# Altium footprint library SubG.PcbLib: 21 footprints (part 1 of 2)
Each footprint in its own frame and in the unit in brackets; x right, y up, seen from the top. Pads: shape width x height; smd on the part's side, far side on the other; paste and mask are expansions set on the pad; w line width, h text height; cw(c..) or ccw(c..) is an arc to the next point about the centre after c.
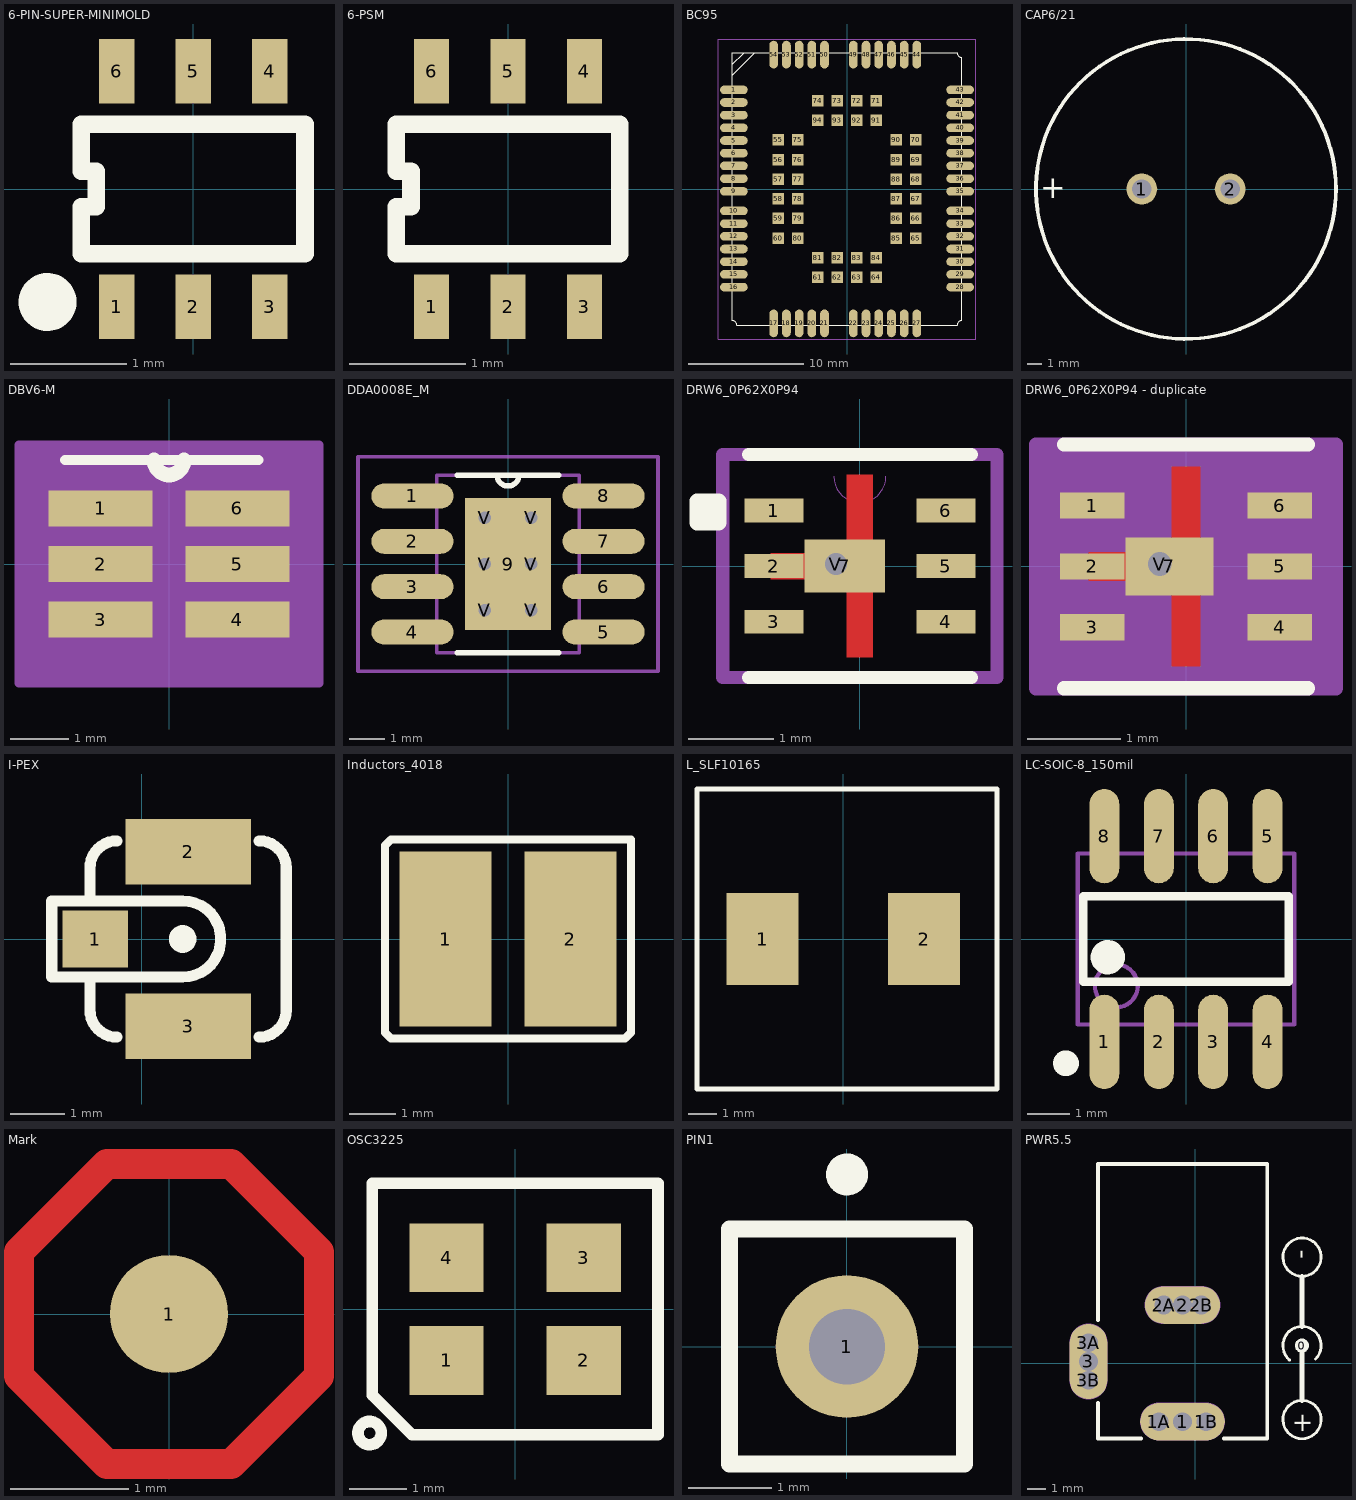
[diagram p0: the footprints below, top view; thin cyan lines are the x and y axes]

## 6-PIN-SUPER-MINIMOLD [mil] "UPG2214TB"
pads (6):
  rect 12x22 smd: 1(-26,-40) 2(0,-40) 3(26,-40) 4(26,40) 5(0,40) 6(-26,40)
Top Overlay:
  circle w9.84: c-49.53,-38.43 r4.92
  lines w6: -38,-22 38,-22 38,22 -38,22 -38,6 -33,6 -33,-6 -38,-6 -38,-22

## 6-PSM [mil] "uPG2214TB RF Switch"
pads (6):
  rect 12x22 smd: 1(-26,-40) 2(0,-40) 3(26,-40) 4(26,40) 5(0,40) 6(-26,40)
Top Overlay:
  lines w6: -38,-22 -38,-6 -33,-6 -33,6 -38,6 -38,22 38,22 38,-22 -38,-22

## BC95 [mm]
pads (94):
  oval 2.4x0.75 smd: 1(-9.8,8.6) 2(-9.8,7.5) 3(-9.8,6.4) 4(-9.8,5.3) 5(-9.8,4.2) 6(-9.8,3.1) 7(-9.8,2) 8(-9.8,0.9) 9(-9.8,-0.2) 10(-9.8,-1.9) 11(-9.8,-3) 12(-9.8,-4.1) 13(-9.8,-5.2) 14(-9.8,-6.3) 15(-9.8,-7.4) 16(-9.8,-8.5) 28(9.8,-8.5) 29(9.8,-7.4) 30(9.8,-6.3) 31(9.8,-5.2) 32(9.8,-4.1) 33(9.8,-3) 34(9.8,-1.9) 35(9.8,-0.2) 36(9.8,0.9) 37(9.8,2) 38(9.8,3.1) 39(9.8,4.2) 40(9.8,5.3) 41(9.8,6.4) 42(9.8,7.5) 43(9.8,8.6)
  oval 0.75x2.4 smd: 17(-6.35,-11.65) 18(-5.25,-11.65) 19(-4.15,-11.65) 20(-3.05,-11.65) 21(-1.95,-11.65) 22(0.55,-11.65) 23(1.65,-11.65) 24(2.75,-11.65) 25(3.85,-11.65) 26(4.95,-11.65) 27(6.05,-11.65) 44(6.05,11.65) 45(4.95,11.65) 46(3.85,11.65) 47(2.75,11.65) 48(1.65,11.65) 49(0.55,11.65) 50(-1.95,11.65) 51(-3.05,11.65) 52(-4.15,11.65) 53(-5.25,11.65) 54(-6.35,11.65)
  rect 1x1 smd: 55(-5.95,4.25) 56(-5.95,2.55) 57(-5.95,0.85) 58(-5.95,-0.85) 59(-5.95,-2.55) 60(-5.95,-4.25) 61(-2.55,-7.65) 62(-0.85,-7.65) 63(0.85,-7.65) 64(2.55,-7.65) 65(5.95,-4.25) 66(5.95,-2.55) 67(5.95,-0.85) 68(5.95,0.85) 69(5.95,2.55) 70(5.95,4.25) 71(2.55,7.65) 72(0.85,7.65) 73(-0.85,7.65) 74(-2.55,7.65) 75(-4.25,4.25) 76(-4.25,2.55) 77(-4.25,0.85) 78(-4.25,-0.85) 79(-4.25,-2.55) 80(-4.25,-4.25) 81(-2.55,-5.95) 82(-0.85,-5.95) 83(0.85,-5.95) 84(2.55,-5.95) 85(4.25,-4.25) 86(4.25,-2.55) 87(4.25,-0.85) 88(4.25,0.85) 89(4.25,2.55) 90(4.25,4.25) 91(2.55,5.95) 92(0.85,5.95) 93(-0.85,5.95) 94(-2.55,5.95)
Top Overlay:
  lines w0.1: -9.95,9.851 -8.001,11.8 -9.271,11.8 ; -9.95,10.033 -9.95,11.375 ; -9.95,10.414 -9.95,11.8 ; -9.931,10.82 -8.966,11.786 ; -8.437,11.8 -9.95,11.8 ; -9.95,11.8 9.55,11.8 ccw(c9.95,11.8) 9.95,11.4 9.95,-11.4 ccw(c9.95,-11.8) 9.55,-11.8 -9.55,-11.8 ccw(c-9.95,-11.8) -9.95,-11.4 -9.95,11.8
Mechanical 1:
  lines w0.01: -11.15,-13 -11.15,13 11.15,13 11.15,-13 -11.15,-13

## CAP6/21 [mm] "超级电容6/21mm"
pads (2):
  round 2.1 hole 1.3: 1(-3,0) 2(3,0)
Top Overlay:
  circle w0.254: c0,0 r10.18
  text "+" at -9.906,-0.635 h1.5

## DBV6-M [mil] "THS9001"
pads (6):
  rect 70x24 smd: 1(-46,37.4) 2(-46,0) 3(-46,-37.4) 4(46,-37.4) 5(46,0) 6(46,37.4)
Top Overlay:
  lines w7: -70,70 60,70
  lines w10: -10,70 ccw(c0,70) 10,70
Mechanical 13:
  lines w0: -12,60 ccw(c0,60) 12,60
Mechanical 15:
  region: 101,-80 -101,-80 -101,80 101,80
  lines w6: -101,-80 -101,80 101,80 101,-80 -101,-80
3D body: height 57.1, standoff 0, extent -59,-60 59,60

## DDA0008E_M [mm]
pads (15):
  oval 2.3x0.7 smd paste-0.102 mask+0.051: 1(-2.677,1.905) 2(-2.677,0.635) 3(-2.677,-0.635) 4(-2.677,-1.905) 5(2.677,-1.905) 6(2.677,-0.635) 7(2.677,0.635) 8(2.677,1.905)
  rect 2.4x3.7 smd paste-0.102 mask+0.051: 9(0,0)
  round 0.7 / inner round 1.524 / far side round 0.5 hole 0.35 mask+0.051: V(-0.65,-1.3) V(-0.65,0) V(-0.65,1.3) V(0.65,-1.3) V(0.65,0) V(0.65,1.3)
Top Overlay:
  lines w0.152: -1.415,-2.489 1.415,-2.489 ; -1.415,2.489 1.415,2.489 ; -0.305,2.489 ccw(c0,2.489) 0.305,2.489
Mechanical 13:
  lines w0.1: -0.305,2.489 ccw(c0,2.489) 0.305,2.489 ; -3.099,-2.146 -3.099,-1.664 -1.994,-1.664 -1.994,-2.146 -3.099,-2.146 ; -3.099,-0.876 -3.099,-0.394 -1.994,-0.394 -1.994,-0.876 -3.099,-0.876 ; -3.099,0.394 -3.099,0.876 -1.994,0.876 -1.994,0.394 -3.099,0.394 ; -3.099,1.664 -3.099,2.146 -1.994,2.146 -1.994,1.664 -3.099,1.664 ; -1.994,-2.489 1.994,-2.489 1.994,2.489 -1.994,2.489 -1.994,-2.489 ; 1.994,-2.146 1.994,-1.664 3.099,-1.664 3.099,-2.146 1.994,-2.146 ; 1.994,-0.876 1.994,-0.394 3.099,-0.394 3.099,-0.876 1.994,-0.876 ; 1.994,0.394 1.994,0.876 3.099,0.876 3.099,0.394 1.994,0.394 ; 1.994,1.664 1.994,2.146 3.099,2.146 3.099,1.664 1.994,1.664
Mechanical 15:
  lines w0.1: -4.2,-3 -4.2,3 4.2,3 4.2,-3 -4.2,-3 ; -0.5,0 0.5,0 -0.5,0 ; 0,-0.5 0,0.5 0,-0.5
3D body: height 0.25, standoff 0, extent 0,0 0.254,0.254

## DRW6_0P62X0P94 [mm] "THS9000"
pads (8):
  rect 0.69x0.28 smd paste-0.14: 1(-1.005,0.65) 2(-1.005,0) 3(-1.005,-0.65) 4(1.005,-0.65) 5(1.005,0) 6(1.005,0.65)
  rect 0.94x0.62 smd paste-0.457 mask-0.457: 7(-0.178,0)
  round 0.508 / inner round 1.524 / far side round 0.508 hole 0.254: V(-0.279,0.025)
Top Layer:
  region: 0.152,1.067 0.152,0.305 -0.152,0.305 -0.152,1.067
  region: -0.152,-1.067 -0.152,-0.305 0.152,-0.305 0.152,-1.067
  region: 0,0.31
  region: 0,-0.31
  region: -0.635,-0.152 -0.635,0.152 -1.041,0.152 -1.041,-0.152
Top Overlay:
  lines w0.152: -1.304,-1.304 1.304,-1.304 ; -1.304,1.304 1.304,1.304
  lines w0.178: -1.905,0.508 -1.651,0.762 ; -1.905,0.508 -1.651,0.508 -1.651,0.762 ; -1.905,0.508 -1.905,0.762 -1.651,0.762
Top Paste:
  region: -0.685,0.765 -1.325,0.765 -1.325,0.535 -0.685,0.535
  region: -0.685,0.115 -1.325,0.115 -1.325,-0.115 -0.685,-0.115
  region: -0.685,-0.535 -1.325,-0.535 -1.325,-0.765 -0.685,-0.765
  region: 1.325,-0.535 0.685,-0.535 0.685,-0.765 1.325,-0.765
  region: 1.325,0.115 0.685,0.115 0.685,-0.115 1.325,-0.115
  region: 1.325,0.765 0.685,0.765 0.685,0.535 1.325,0.535
  region: 0.127,1.067 0.127,0.533 -0.127,0.533 -0.127,1.067
  region: -0.127,-1.067 -0.127,-0.533 0.127,-0.533 0.127,-1.067
  region: -0.381,0.305 0.279,0.305 0.279,-0.305 -0.381,-0.305
Top Solder:
  region: -0.59,0.86 -1.42,0.86 -1.42,0.44 -0.59,0.44
  region: -0.59,0.21 -1.42,0.21 -1.42,-0.21 -0.59,-0.21
  region: -0.59,-0.44 -1.42,-0.44 -1.42,-0.86 -0.59,-0.86
  region: 1.42,-0.44 0.59,-0.44 0.59,-0.86 1.42,-0.86
  region: 1.42,0.21 0.59,0.21 0.59,-0.21 1.42,-0.21
  region: 1.42,0.86 0.59,0.86 0.59,0.44 1.42,0.44
  region: -0.203,0.33 -0.203,1.118 0.203,1.118 0.203,0.33
  region: -0.203,-1.143 -0.203,-0.254 0.203,-0.254 0.203,-1.143
  region: -0.711,-0.381 -0.711,0.381 0.279,0.381 0.279,-0.381
  region: 0.203,-0.381 0.203,0.381 0.356,0.381 0.356,-0.381
  region: 0.102,0.412 -0.102,0.412 0.102,0.412
  region: 0.102,-0.412 -0.102,-0.412 0.102,-0.412
Mechanical 13:
  lines w0: -0.305,1.05 ccw(c0,1.05) 0.305,1.05
Mechanical 15:
  lines w0.152: -1.604,-1.304 -1.604,1.304 1.604,1.304 1.604,-1.304 -1.604,-1.304
3D body: height 0.25, standoff 0, extent 0,0 0.254,0.254

## DRW6_0P62X0P94 - duplicate [mm] "THS9000"
pads (8):
  rect 0.69x0.28 smd paste-0.14: 1(-1.005,0.65) 2(-1.005,0) 3(-1.005,-0.65) 4(1.005,-0.65) 5(1.005,0) 6(1.005,0.65)
  rect 0.94x0.62 smd paste-0.457 mask-0.457: 7(-0.178,0)
  round 0.508 / inner round 1.524 / far side round 0.508 hole 0.254: V(-0.279,0.025)
Top Layer:
  region: -0.635,-0.152 -0.635,0.152 -1.041,0.152 -1.041,-0.152
  region: 0,-0.31
  region: 0,0.31
  region: -0.152,-1.067 -0.152,-0.305 0.152,-0.305 0.152,-1.067
  region: 0.152,1.067 0.152,0.305 -0.152,0.305 -0.152,1.067
Top Overlay:
  lines w0.152: -1.304,-1.304 1.304,-1.304 ; -1.304,1.304 1.304,1.304
Top Paste:
  region: -0.381,0.305 0.279,0.305 0.279,-0.305 -0.381,-0.305
  region: -0.127,-1.067 -0.127,-0.533 0.127,-0.533 0.127,-1.067
  region: 0.127,1.067 0.127,0.533 -0.127,0.533 -0.127,1.067
  region: 1.325,0.765 0.685,0.765 0.685,0.535 1.325,0.535
  region: 1.325,0.115 0.685,0.115 0.685,-0.115 1.325,-0.115
  region: 1.325,-0.535 0.685,-0.535 0.685,-0.765 1.325,-0.765
  region: -0.685,-0.535 -1.325,-0.535 -1.325,-0.765 -0.685,-0.765
  region: -0.685,0.115 -1.325,0.115 -1.325,-0.115 -0.685,-0.115
  region: -0.685,0.765 -1.325,0.765 -1.325,0.535 -0.685,0.535
Top Solder:
  region: 0.102,-0.412 -0.102,-0.412 0.102,-0.412
  region: 0.102,0.412 -0.102,0.412 0.102,0.412
  region: 0.203,-0.381 0.203,0.381 0.356,0.381 0.356,-0.381
  region: -0.711,-0.381 -0.711,0.381 0.279,0.381 0.279,-0.381
  region: -0.203,-1.143 -0.203,-0.254 0.203,-0.254 0.203,-1.143
  region: -0.203,0.33 -0.203,1.118 0.203,1.118 0.203,0.33
  region: 1.42,0.86 0.59,0.86 0.59,0.44 1.42,0.44
  region: 1.42,0.21 0.59,0.21 0.59,-0.21 1.42,-0.21
  region: 1.42,-0.44 0.59,-0.44 0.59,-0.86 1.42,-0.86
  region: -0.59,-0.44 -1.42,-0.44 -1.42,-0.86 -0.59,-0.86
  region: -0.59,0.21 -1.42,0.21 -1.42,-0.21 -0.59,-0.21
  region: -0.59,0.86 -1.42,0.86 -1.42,0.44 -0.59,0.44
Mechanical 13:
  lines w0: -0.305,1.05 ccw(c0,1.05) 0.305,1.05
Mechanical 15:
  region: 1.604,-1.304 -1.604,-1.304 -1.604,1.304 1.604,1.304
  lines w0.152: -1.604,-1.304 1.604,-1.304 1.604,1.304 -1.604,1.304 -1.604,-1.304
3D body: height 0.25, standoff 0, extent 0,0 0.254,0.254

## I-PEX [mm] "RECE-20279-001E-01 RF连接器/同轴连接器"
pads (3):
  rect 1.2x1.05 smd: 1(-0.85,0)
  rect 2.3x1.2 smd: 2(0.85,1.6) 3(0.85,-1.6)
Top Overlay:
  circle w0.254: c0.75,0 r0.127
  lines w0.203: -0.45,-1.8 cw(c-0.45,-1.3) -0.95,-1.3 ; -0.45,1.8 ccw(c-0.45,1.3) -0.95,1.3 -0.95,0.7 ; 2.15,-1.8 ccw(c2.15,-1.3) 2.65,-1.3 2.65,1.3 ccw(c2.15,1.3) 2.15,1.8 ; -0.95,-1.3 -0.95,-0.7 ; -0.95,-1.3 -0.95,-0.7 ; -0.95,-0.7 -1.65,-0.7 -1.65,0.7 -0.95,0.7 ; -0.95,-0.7 0.75,-0.7 ccw(c0.75,0) 0.75,0.7 -0.95,0.7

## Inductors_4018 [mm] "PRS4018  4018封装"
pads (2):
  rect 2x3.8 smd: 1(-1.354,0) 2(1.354,0)
Top Overlay:
  lines w0.178: -2.667,-2.032 -2.54,-2.159 2.54,-2.159 2.667,-2.032 2.667,2.159 -2.54,2.159 -2.667,2.032 -2.667,-2.032

## L_SLF10165 [mm] "SLF10165 10X10mm 功率电感"
height 6.5
pads (2):
  rect 2.5x3.2 smd: 1(-2.8,0) 2(2.8,0)
Top Overlay:
  lines w0.178: -5.08,-5.207 -5.08,5.207 5.334,5.207 5.334,-5.207 -5.08,-5.207

## LC-SOIC-8_150mil [mm] "TI-DDA(R-PDSO-G8)"
pads (8):
  oval 0.7x2.2 smd: 1(-1.905,-2.4) 2(-0.635,-2.4) 3(0.635,-2.4) 4(1.905,-2.4) 5(1.905,2.4) 6(0.635,2.4) 7(-0.635,2.4) 8(-1.905,2.4)
Top Overlay:
  circle w0.3: c-2.8,-2.9 r0.15
  circle w0.4: c-1.825,-0.425 r0.2
  lines w0.2: -2.4,-1 2.4,-1 2.4,1 -2.4,1 -2.4,-1
Mechanical 13:
  circle w0.1: c-1.625,-1.095 r0.5
  lines w0.1: -2.525,-1.995 2.525,-1.995 2.525,1.995 -2.525,1.995 -2.525,-1.995

## Mark [mm] "Mark点"
pads (1):
  round 1 smd mask+0.5: 1(0,0)
Top Layer:
  lines w0.254: -1.27,-0.526 -1.27,0.526 -0.526,1.27 0.526,1.27 1.27,0.526 1.27,-0.526 0.526,-1.27 -0.526,-1.27 -1.27,-0.526

## OSC3225 [mm] "四脚晶振"
pads (4):
  rect 1.3x1.2 smd: 1(-1.2,-0.9) 2(1.2,-0.9) 3(1.2,0.9) 4(-1.2,0.9)
Top Overlay:
  circle w0.203: c-2.546,-2.17 r0.203
  lines w0.203: -2.5,-1.505 -2.5,2.2 2.5,2.2 2.5,-2.2 -1.805,-2.2 -2.5,-1.505

## PIN1 [mm] "Generic Antenna; 1 Lead"
pads (1):
  round 1.7 hole 0.9: 1(0,0)
Top Overlay:
  circle w0.25: c0,2.05 r0.125
  lines w0.2: -1.4,-1.4 1.4,-1.4 1.4,1.4 -1.4,1.4 -1.4,-1.4

## PWR5.5 [mm] "DC5.5座"
pads (10):
  round 0.762 on Top Overlay: 0(5.675,0.948)
  oval 4.5x2 hole 1: 1(-0.675,-3.1)
  round 1.5 hole 1: 1A(-1.925,-3.1) 1B(0.575,-3.1) 2A(-1.675,3.1) 2B(0.325,3.1) 3A(-5.675,1.1) 3B(-5.675,-0.9)
  oval 4x2 hole 1: 2(-0.675,3.1)
  oval 2x4 hole 1: 3(-5.675,0.1)
Top Overlay:
  lines w0.152: 5.027,0.17 cw(c5.68,0.948) 6.396,0.227 ; 5.675,-4.005 cw(c5.68,-2.989) 5.68,-4.005 ; 5.675,4.631 cw(c5.68,5.647) 5.68,4.631
  lines w0.2: -5.175,-2.1 -5.175,-4 -2.875,-4 ; -5.175,2.3 -5.175,10.6 3.825,10.6 3.825,-4 1.525,-4
  lines w0.254: 5.675,-1.973 5.675,0.694 ; 5.675,1.964 5.675,4.631
  text "+" at 5.294,-2.608 h1.02
  text "-" at 5.294,6.028 h1.02
Mechanical 1:
  lines w1: -5.675,-0.9 -5.675,1.1 ; -1.925,-3.1 0.575,-3.1 ; -1.675,3.1 0.325,3.1
Mechanical 2:
  lines w2.016: -5.675,-0.9 -5.675,1.1 ; -1.925,-3.1 0.575,-3.1 ; -1.675,3.1 0.325,3.1